# Altium schematic symbol library RD7-12S033R.SchLib: 1 symbol
Pins are listed as number, name and electrical type; pins without a type are passive.

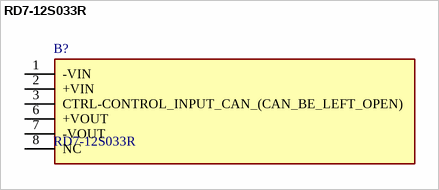
[diagram p0: symbol RD7-12S033R]

## RD7-12S033R
designator B?
Isolated DC/DC Converters - Through Hole DC-DC Converter, Isolated Module, Single Output, 9V-18VDC Input, 3.3VDC, 3W; Manufacturer_Name: Adam Tech; Geometry.Height: 11.6mm; Mouser Part Number: *; Mouser Price/Stock: *; Manufacturer_Part_Number: RD7-12S033R; Datasheet Link: https://app.adam-tech.com/products/download/data_sheet/247025/rd7-12s033r-data-sheet.pdf
footprint RD712S033R
pins: 1 -VIN, 2 +VIN, 3 CTRL-CONTROL_INPUT_CAN_(CAN_BE_LEFT_OPEN), 6 +VOUT, 7 -VOUT, 8 NC